# Altium footprint library DF11-24DP-2DS.PcbLib: 1 footprints
Each footprint in its own frame and in the unit in brackets; x right, y up, seen from the top. Pads: shape width x height; smd on the part's side, far side on the other; paste and mask are expansions set on the pad; w line width, h text height; cw(c..) or ccw(c..) is an arc to the next point about the centre after c.
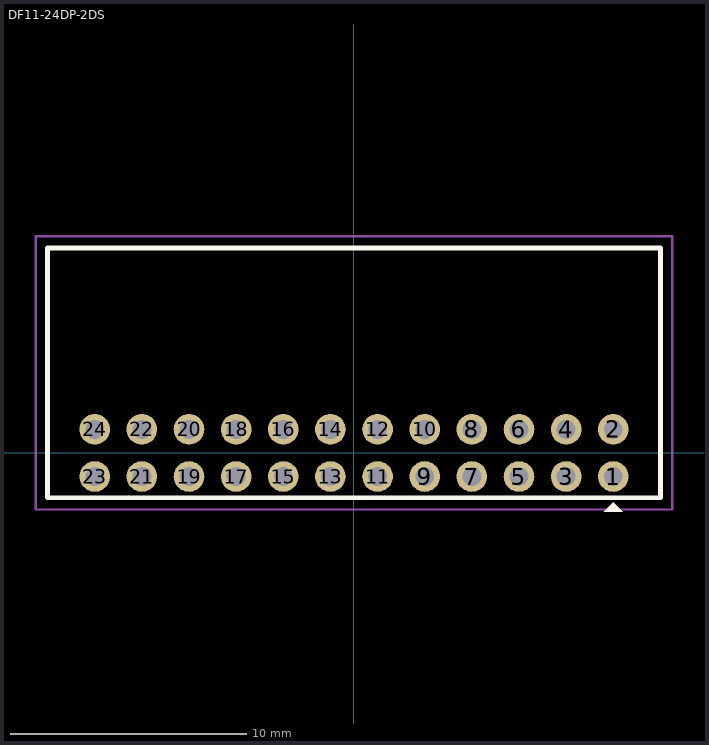
[diagram p0: the footprint, top view; thin cyan lines are the x and y axes]

## DF11-24DP-2DS [mm]
pads (24):
  round 1.3 hole 0.8: 1(11,-1) 2(11,1) 3(9,-1) 4(9,1) 5(7,-1) 6(7,1) 7(5,-1) 8(5,1) 9(3,-1) 10(3,1) 11(1,-1) 12(1,1) 13(-1,-1) 14(-1,1) 15(-3,-1) 16(-3,1) 17(-5,-1) 18(-5,1) 19(-7,-1) 20(-7,1) 21(-9,-1) 22(-9,1) 23(-11,-1) 24(-11,1)
Top Overlay:
  region: 11.4,-2.5 10.6,-2.5 11,-2.1
  lines w0.2: -13,-1.9 -13,8.7 13,8.7 13,-1.9 -13,-1.9
Top Courtyard:
  lines w0.1: -13.5,-2.4 13.5,-2.4 13.5,9.2 -13.5,9.2 -13.5,-1.9 -13.5,-2.4
3D body "DF11-24DP-2DS.stp": height 5.06, standoff -2.94, extent -13,-1.3 13,8.7